# Altium footprint library Fedor's_pcb.PcbLib: 174 footprints (part 11 of 14)
Each footprint in its own frame and in the unit in brackets; x right, y up, seen from the top. Pads: shape width x height; smd on the part's side, far side on the other; paste and mask are expansions set on the pad; w line width, h text height; cw(c..) or ccw(c..) is an arc to the next point about the centre after c.
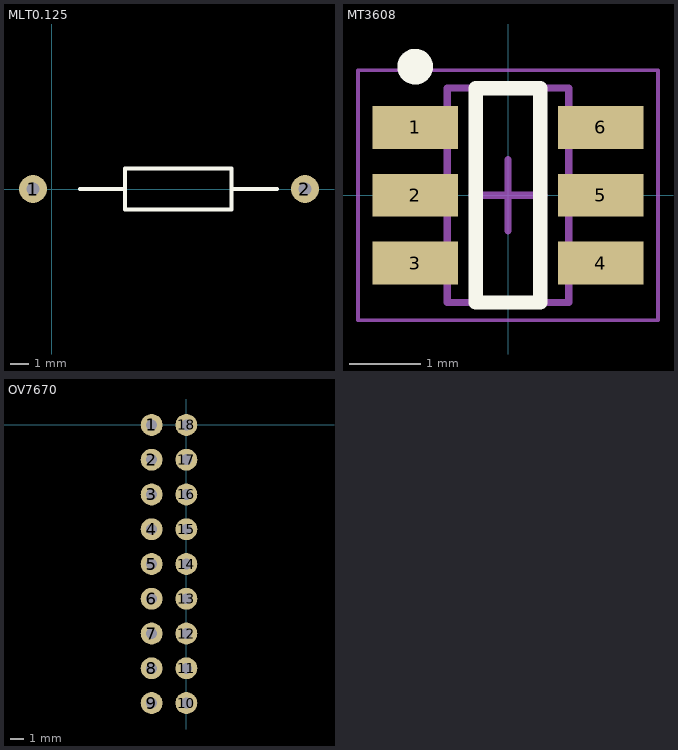
[diagram p10: the footprints below, top view; thin cyan lines are the x and y axes]

## MLT0.125 [mm]
pads (2):
  round 1.5 hole 0.7: 1(-1,0) 2(13.55,0)
Top Overlay:
  lines w0.2: 1.5,0 3.925,0 ; 9.625,0 12.05,0 ; 3.925,0 3.925,-1.1 9.625,-1.1 9.625,1.1 3.925,1.1 3.925,0
3D body "Резистор.stp": height 3.1, standoff -1.5, extent -1.249,-1.1 13.799,1.091

## MT3608 [mm] "SOT23, 6-Leads, Body 2,80x2,80mm, Pitch 0,95mm, IPC Medium Density"
height 1.45
pads (6):
  rect 1.2x0.6 smd: 1(-1.3,0.95) 2(-1.3,0) 3(-1.3,-0.95) 4(1.3,-0.95) 5(1.3,0) 6(1.3,0.95)
Top Overlay:
  circle w0.25: c-1.3,1.8 r0.125
  lines w0.2: -0.45,-1.5 -0.45,1.5 0.45,1.5 0.45,-1.5 -0.45,-1.5
Mechanical 13:
  lines w0.1: -0.85,-1.5 0.85,-1.5 0.85,1.5 -0.85,1.5 -0.85,-1.5
Mechanical 15:
  lines w0.05: -2.1,-1.75 2.1,-1.75 2.1,1.75 -2.1,1.75 -2.1,-1.75
  lines w0.1: -0.5,0 0.5,0 ; 0,-0.5 0,0.5
3D body "MT3608.step": height 1.45, standoff 0, extent -1.5,-1.5 1.5,1.5

## OV7670 [mm]
pads (18):
  round 1.6 hole 0.8: 1(-2.54,0) 2(-2.54,-2.54) 3(-2.54,-5.08) 4(-2.54,-7.62) 5(-2.54,-10.16) 6(-2.54,-12.7) 7(-2.54,-15.24) 8(-2.54,-17.78) 9(-2.54,-20.32) 10(0,-20.32) 11(0,-17.78) 12(0,-15.24) 13(0,-12.7) 14(0,-10.16) 15(0,-7.62) 16(0,-5.08) 17(0,-2.54) 18(0,0)